# Altium schematic symbol library 单片机原理库.SchLib: 2 symbols
Pins are listed as number, name and electrical type; pins without a type are passive.

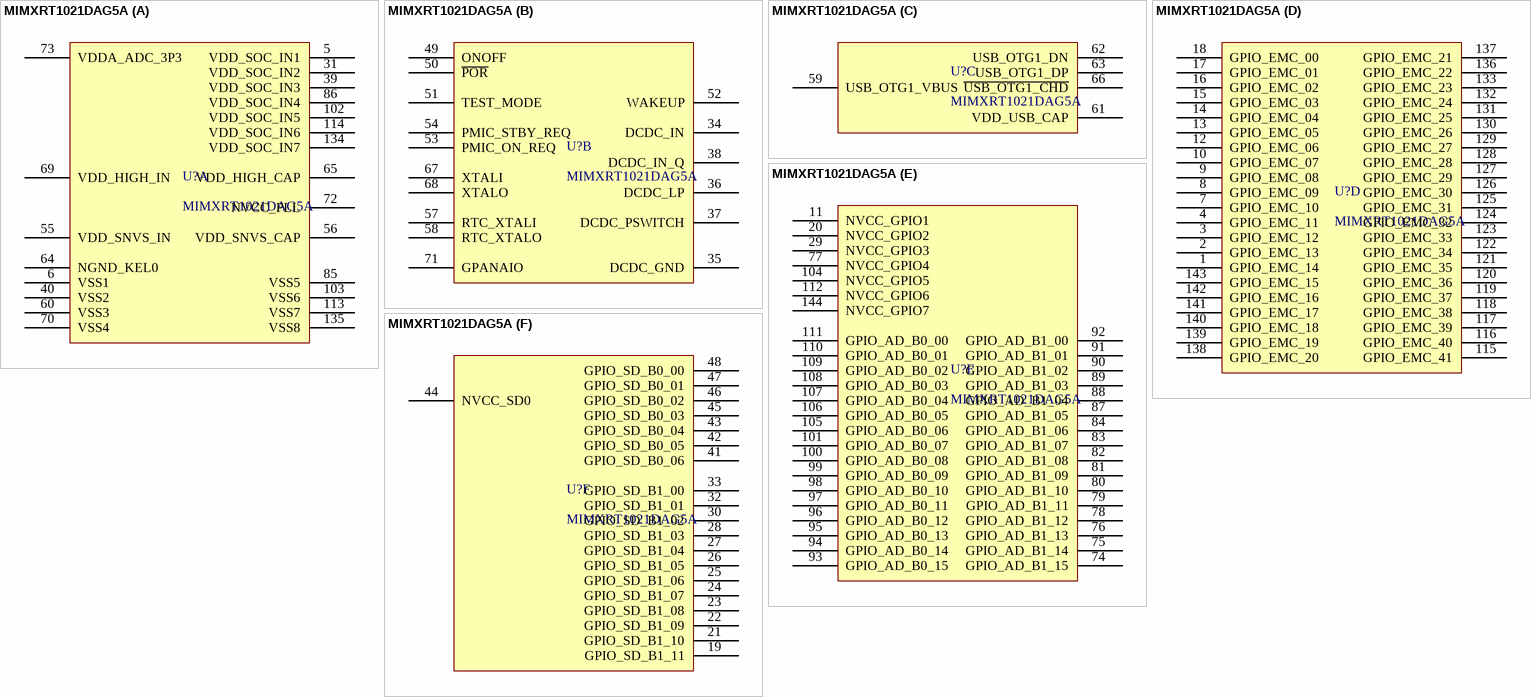
[diagram p0: symbol MIMXRT1021DAG5A]

## MIMXRT1021DAG5A
designator U?
MIMXRT1021DAG5A 分体式原理
footprint LQFP144_N (Footprint not found)
part A pins: 5 VDD_SOC_IN1, 6 VSS1, 31 VDD_SOC_IN2, 39 VDD_SOC_IN3, 40 VSS2, 55 VDD_SNVS_IN, 56 VDD_SNVS_CAP, 60 VSS3, 64 NGND_KEL0, 65 VDD_HIGH_CAP, 69 VDD_HIGH_IN, 70 VSS4, 72 NVCC_PLL, 73 VDDA_ADC_3P3, 85 VSS5, 86 VDD_SOC_IN4, 102 VDD_SOC_IN5, 103 VSS6, 113 VSS7, 114 VDD_SOC_IN6, 134 VDD_SOC_IN7, 135 VSS8
part B pins: 34 DCDC_IN, 35 DCDC_GND, 36 DCDC_LP, 37 DCDC_PSWITCH, 38 DCDC_IN_Q, 49 ONOFF, 50 ~{POR}, 51 TEST_MODE, 52 WAKEUP, 53 PMIC_ON_REQ, 54 PMIC_STBY_REQ, 57 RTC_XTALI, 58 RTC_XTALO, 67 XTALI, 68 XTALO, 71 GPANAIO
part C pins: 59 USB_OTG1_VBUS, 61 VDD_USB_CAP, 62 USB_OTG1_DN, 63 USB_OTG1_DP, 66 ~{USB_OTG1_CHD}
part D pins: 1 GPIO_EMC_14, 2 GPIO_EMC_13, 3 GPIO_EMC_12, 4 GPIO_EMC_11, 7 GPIO_EMC_10, 8 GPIO_EMC_09, 9 GPIO_EMC_08, 10 GPIO_EMC_07, 12 GPIO_EMC_06, 13 GPIO_EMC_05, 14 GPIO_EMC_04, 15 GPIO_EMC_03, 16 GPIO_EMC_02, 17 GPIO_EMC_01, 18 GPIO_EMC_00, 115 GPIO_EMC_41, 116 GPIO_EMC_40, 117 GPIO_EMC_39, 118 GPIO_EMC_38, 119 GPIO_EMC_37, 120 GPIO_EMC_36, 121 GPIO_EMC_35, 122 GPIO_EMC_34, 123 GPIO_EMC_33, 124 GPIO_EMC_32, 125 GPIO_EMC_31, 126 GPIO_EMC_30, 127 GPIO_EMC_29, 128 GPIO_EMC_28, 129 GPIO_EMC_27, 130 GPIO_EMC_26, 131 GPIO_EMC_25, 132 GPIO_EMC_24, 133 GPIO_EMC_23, 136 GPIO_EMC_22, 137 GPIO_EMC_21, 138 GPIO_EMC_20, 139 GPIO_EMC_19, 140 GPIO_EMC_18, 141 GPIO_EMC_17, 142 GPIO_EMC_16, 143 GPIO_EMC_15
part E pins: 11 NVCC_GPIO1, 20 NVCC_GPIO2, 29 NVCC_GPIO3, 74 GPIO_AD_B1_15, 75 GPIO_AD_B1_14, 76 GPIO_AD_B1_13, 77 NVCC_GPIO4, 78 GPIO_AD_B1_12, 79 GPIO_AD_B1_11, 80 GPIO_AD_B1_10, 81 GPIO_AD_B1_09, 82 GPIO_AD_B1_08, 83 GPIO_AD_B1_07, 84 GPIO_AD_B1_06, 87 GPIO_AD_B1_05, 88 GPIO_AD_B1_04, 89 GPIO_AD_B1_03, 90 GPIO_AD_B1_02, 91 GPIO_AD_B1_01, 92 GPIO_AD_B1_00, 93 GPIO_AD_B0_15, 94 GPIO_AD_B0_14, 95 GPIO_AD_B0_13, 96 GPIO_AD_B0_12, 97 GPIO_AD_B0_11, 98 GPIO_AD_B0_10, 99 GPIO_AD_B0_09, 100 GPIO_AD_B0_08, 101 GPIO_AD_B0_07, 104 NVCC_GPIO5, 105 GPIO_AD_B0_06, 106 GPIO_AD_B0_05, 107 GPIO_AD_B0_04, 108 GPIO_AD_B0_03, 109 GPIO_AD_B0_02, 110 GPIO_AD_B0_01, 111 GPIO_AD_B0_00, 112 NVCC_GPIO6, 144 NVCC_GPIO7
part F pins: 19 GPIO_SD_B1_11, 21 GPIO_SD_B1_10, 22 GPIO_SD_B1_09, 23 GPIO_SD_B1_08, 24 GPIO_SD_B1_07, 25 GPIO_SD_B1_06, 26 GPIO_SD_B1_05, 27 GPIO_SD_B1_04, 28 GPIO_SD_B1_03, 30 GPIO_SD_B1_02, 32 GPIO_SD_B1_01, 33 GPIO_SD_B1_00, 41 GPIO_SD_B0_06, 42 GPIO_SD_B0_05, 43 GPIO_SD_B0_04, 44 NVCC_SD0, 45 GPIO_SD_B0_03, 46 GPIO_SD_B0_02, 47 GPIO_SD_B0_01, 48 GPIO_SD_B0_00

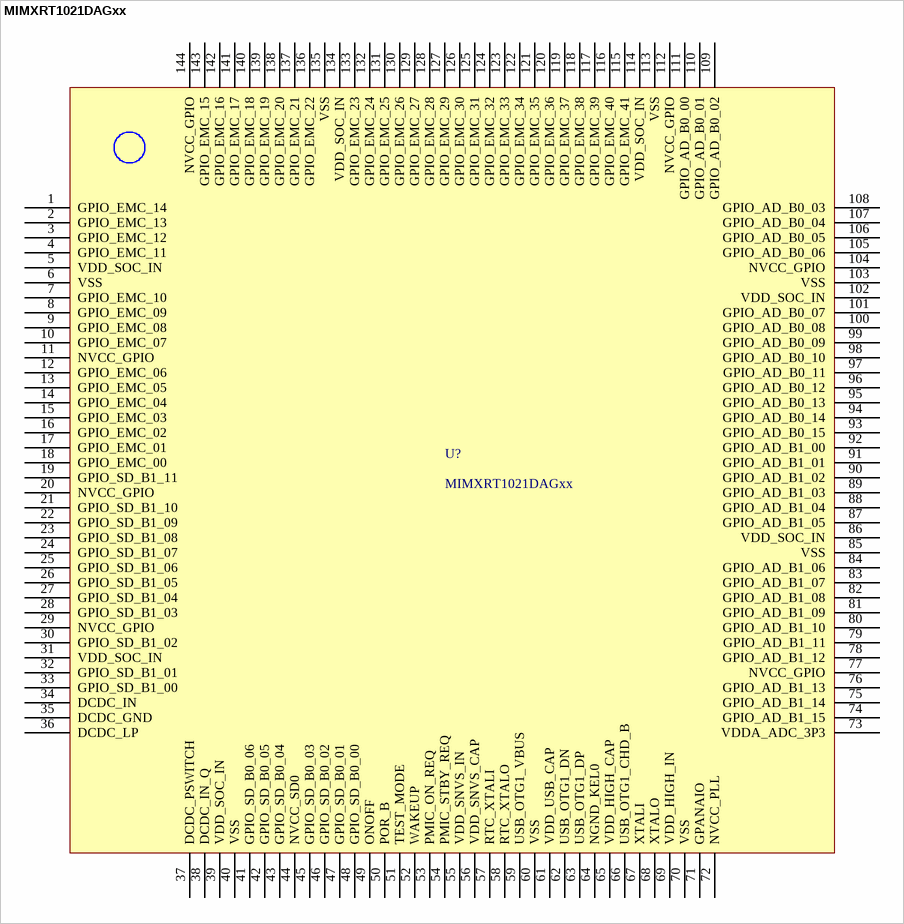
[diagram p1: symbol MIMXRT1021DAGxx]

## MIMXRT1021DAGxx
designator U?
MIMXRT1021DAGxx 整体式原理
footprint LQFP144_N (Footprint not found)
pins: 1 GPIO_EMC_14, 2 GPIO_EMC_13, 3 GPIO_EMC_12, 4 GPIO_EMC_11, 5 VDD_SOC_IN, 6 VSS, 7 GPIO_EMC_10, 8 GPIO_EMC_09, 9 GPIO_EMC_08, 10 GPIO_EMC_07, 11 NVCC_GPIO, 12 GPIO_EMC_06, 13 GPIO_EMC_05, 14 GPIO_EMC_04, 15 GPIO_EMC_03, 16 GPIO_EMC_02, 17 GPIO_EMC_01, 18 GPIO_EMC_00, 19 GPIO_SD_B1_11, 20 NVCC_GPIO, 21 GPIO_SD_B1_10, 22 GPIO_SD_B1_09, 23 GPIO_SD_B1_08, 24 GPIO_SD_B1_07, 25 GPIO_SD_B1_06, 26 GPIO_SD_B1_05, 27 GPIO_SD_B1_04, 28 GPIO_SD_B1_03, 29 NVCC_GPIO, 30 GPIO_SD_B1_02, 31 VDD_SOC_IN, 32 GPIO_SD_B1_01, 33 GPIO_SD_B1_00, 34 DCDC_IN, 35 DCDC_GND, 36 DCDC_LP, 37 DCDC_PSWITCH, 38 DCDC_IN_Q, 39 VDD_SOC_IN, 40 VSS, 41 GPIO_SD_B0_06, 42 GPIO_SD_B0_05, 43 GPIO_SD_B0_04, 44 NVCC_SD0, 45 GPIO_SD_B0_03, 46 GPIO_SD_B0_02, 47 GPIO_SD_B0_01, 48 GPIO_SD_B0_00, 49 ONOFF, 50 POR_B, 51 TEST_MODE, 52 WAKEUP, 53 PMIC_ON_REQ, 54 PMIC_STBY_REQ, 55 VDD_SNVS_IN, 56 VDD_SNVS_CAP, 57 RTC_XTALI, 58 RTC_XTALO, 59 USB_OTG1_VBUS, 60 VSS, 61 VDD_USB_CAP, 62 USB_OTG1_DN, 63 USB_OTG1_DP, 64 NGND_KEL0, 65 VDD_HIGH_CAP, 66 USB_OTG1_CHD_B, 67 XTALI, 68 XTALO, 69 VDD_HIGH_IN, 70 VSS, 71 GPANAIO, 72 NVCC_PLL, 73 VDDA_ADC_3P3, 74 GPIO_AD_B1_15, 75 GPIO_AD_B1_14, 76 GPIO_AD_B1_13, 77 NVCC_GPIO, 78 GPIO_AD_B1_12, 79 GPIO_AD_B1_11, 80 GPIO_AD_B1_10, 81 GPIO_AD_B1_09, 82 GPIO_AD_B1_08, 83 GPIO_AD_B1_07, 84 GPIO_AD_B1_06, 85 VSS, 86 VDD_SOC_IN, 87 GPIO_AD_B1_05, 88 GPIO_AD_B1_04, 89 GPIO_AD_B1_03, 90 GPIO_AD_B1_02, 91 GPIO_AD_B1_01, 92 GPIO_AD_B1_00, 93 GPIO_AD_B0_15, 94 GPIO_AD_B0_14, 95 GPIO_AD_B0_13, 96 GPIO_AD_B0_12, 97 GPIO_AD_B0_11, 98 GPIO_AD_B0_10, 99 GPIO_AD_B0_09, 100 GPIO_AD_B0_08, 101 GPIO_AD_B0_07, 102 VDD_SOC_IN, 103 VSS, 104 NVCC_GPIO, 105 GPIO_AD_B0_06, 106 GPIO_AD_B0_05, 107 GPIO_AD_B0_04, 108 GPIO_AD_B0_03, 109 GPIO_AD_B0_02, 110 GPIO_AD_B0_01, 111 GPIO_AD_B0_00, 112 NVCC_GPIO, 113 VSS, 114 VDD_SOC_IN, 115 GPIO_EMC_41, 116 GPIO_EMC_40, 117 GPIO_EMC_39, 118 GPIO_EMC_38, 119 GPIO_EMC_37, 120 GPIO_EMC_36, 121 GPIO_EMC_35, 122 GPIO_EMC_34, 123 GPIO_EMC_33, 124 GPIO_EMC_32, 125 GPIO_EMC_31, 126 GPIO_EMC_30, 127 GPIO_EMC_29, 128 GPIO_EMC_28, 129 GPIO_EMC_27, 130 GPIO_EMC_26, 131 GPIO_EMC_25, 132 GPIO_EMC_24, 133 GPIO_EMC_23, 134 VDD_SOC_IN, 135 VSS, 136 GPIO_EMC_22, 137 GPIO_EMC_21, 138 GPIO_EMC_20, 139 GPIO_EMC_19, 140 GPIO_EMC_18, 141 GPIO_EMC_17, 142 GPIO_EMC_16, 143 GPIO_EMC_15, 144 NVCC_GPIO